# EAGLE library part DRV8332_DKD_36 (library CameraGantry)
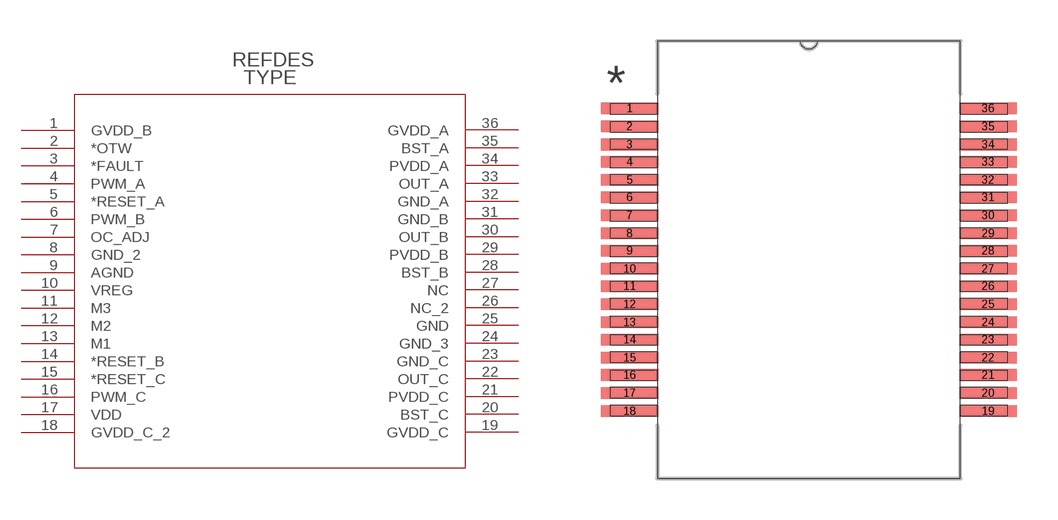
[diagram p0: symbol with the pads of DKD36; footprint DKD36]

Designator prefix U

## DRV8332_DKD_36  [DKD36]
1  GVDD_B  pas
2  *OTW  pas
3  *FAULT  pas
4  PWM_A  pas
5  *RESET_A  pas
6  PWM_B  pas
7  OC_ADJ  pas
8  GND_2  pas
9  AGND  pas
10  VREG  pas
11  M3  pas
12  M2  pas
13  M1  pas
14  *RESET_B  pas
15  *RESET_C  pas
16  PWM_C  pas
17  VDD  pas
18  GVDD_C_2  pas
19  GVDD_C  pas
20  BST_C  pas
21  PVDD_C  pas
22  OUT_C  pas
23  GND_C  pas
24  GND_3  pas
25  GND  pas
26  NC_2  pas
27  NC  pas
28  BST_B  pas
29  PVDD_B  pas
30  OUT_B  pas
31  GND_B  pas
32  GND_A  pas
33  OUT_A  pas
34  PVDD_A  pas
35  BST_A  pas
36  GVDD_A  pas

## Footprint DKD36 (pad centres in mm)
smd 2.108 x 0.432: 1 -6.553,5.537; 2 -6.553,4.877; 3 -6.553,4.216; 4 -6.553,3.581; 5 -6.553,2.921; 6 -6.553,2.286; 7 -6.553,1.626; 8 -6.553,0.965; 9 -6.553,0.33; 10 -6.553,-0.33; 11 -6.553,-0.965; 12 -6.553,-1.626; 13 -6.553,-2.286; 14 -6.553,-2.921; 15 -6.553,-3.581; 16 -6.553,-4.216; 17 -6.553,-4.877; 18 -6.553,-5.537; 19 6.553,-5.537; 20 6.553,-4.877; 21 6.553,-4.216; 22 6.553,-3.581; 23 6.553,-2.921; 24 6.553,-2.286; 25 6.553,-1.626; 26 6.553,-0.965; 27 6.553,-0.33; 28 6.553,0.33; 29 6.553,0.965; 30 6.553,1.626; 31 6.553,2.286; 32 6.553,2.921; 33 6.553,3.581; 34 6.553,4.216; 35 6.553,4.877; 36 6.553,5.537